# EAGLE library part LP-12VA (library trafo-signal)
TRANSFORMER
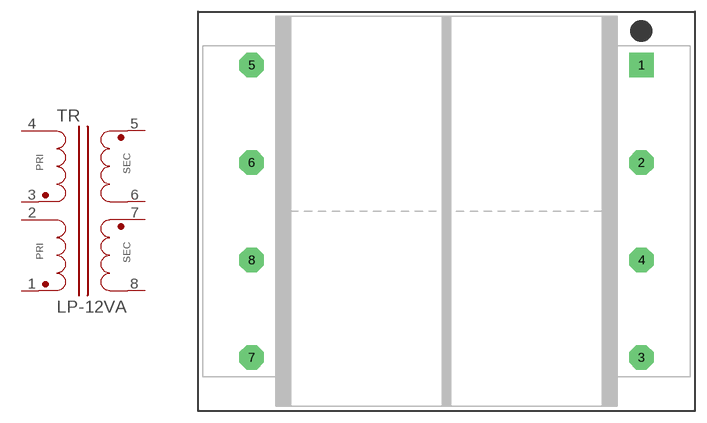
[diagram p1: symbol with the pads of LP-12VA; footprint LP-12VA]

Designator prefix TR

## LP-12VA  [LP-12VA]
1  1  pas
2  2  pas
3  3  pas
4  4  pas
5  5  pas
6  6  pas
7  7  pas
8  8  pas

## Footprint LP-12VA (pad centres in mm)
PC Series - 12VA
drill 1.422 pad 3.175 square: 1 25.4,19.05
drill 1.422 pad 3.175 octagon: 2 25.4,6.35; 3 25.4,-19.05; 4 25.4,-6.35; 5 -25.4,19.05; 6 -25.4,6.35; 7 -25.4,-19.05; 8 -25.4,-6.35